# Altium schematic symbol library N-Channel MOSFET.SchLib: 1 symbol
Pins are listed as number, name and electrical type; pins without a type are passive.

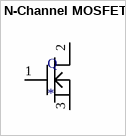
[diagram p0: symbol N-Channel MOSFET]

## N-Channel MOSFET
designator Q
footprint N-Channel MOSFET (SOT23, 3-Leads, Body 2.92x2.37mm, Pitch 0.95mm, IPC Medium Density)
pins: 1, 2, 3